# EAGLE library part MOTORDRIVER (library pinheads)
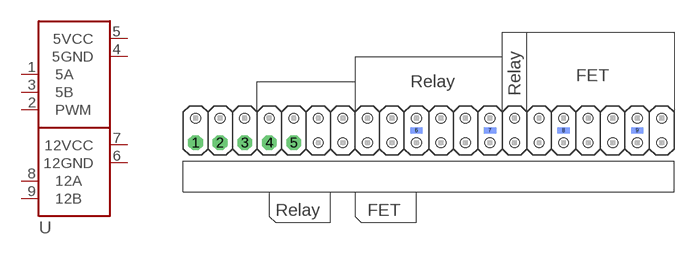
[diagram p42: symbol with the pads of MOTORDRIVER; footprint MOTORDRIVER]

Designator prefix -

## MOTORDRIVER  [MOTORDRIVER]
1  5A
2  PWM
3  5B
4  5GND  pwr
5  5VCC  pwr
6  12GND  pwr
7  12VCC  pwr
8  12A
9  12B

## Footprint MOTORDRIVER (pad centres in mm)
drill 1.016 pad 1.524 octagon: 1 -22.86,-1.27; 2 -20.32,-1.27; 3 -17.78,-1.27; 4 -15.24,-1.27; 5 -12.7,-1.27
smd 1.27 x 0.635 bottom: 6 0,0; 7 7.62,0; 8 15.24,0; 9 22.86,0
hole 1.016 at 15.24,1.27
hole 1.016 at 17.78,1.27
hole 1.016 at 20.32,1.27
hole 1.016 at 22.86,1.27
hole 1.016 at 25.4,1.27
hole 1.016 at 20.32,-1.27
hole 1.016 at 25.4,-1.27
hole 1.016 at 17.78,-1.27
hole 1.016 at 12.7,-1.27
hole 1.016 at 12.7,1.27
hole 1.016 at 10.16,1.27
hole 1.016 at 7.62,1.27
hole 1.016 at 10.16,-1.27
hole 1.016 at 5.08,-1.27
hole 1.016 at 5.08,1.27
hole 1.016 at 2.54,1.27
hole 1.016 at 0,1.27
hole 1.016 at 2.54,-1.27
hole 1.016 at -2.54,-1.27
hole 1.016 at -2.54,1.27
hole 1.016 at -22.86,1.27
hole 1.016 at -20.32,1.27
hole 1.016 at -17.78,1.27
hole 1.016 at -15.24,1.27
hole 1.016 at -12.7,1.27
hole 1.016 at -10.16,1.27
hole 1.016 at -10.16,-1.27
hole 1.016 at -7.62,-1.27
hole 1.016 at -7.62,1.27
hole 1.016 at -5.08,1.27
hole 1.016 at -5.08,-1.27
hole 1.016 at 0,-1.27
hole 1.016 at 7.62,-1.27
hole 1.016 at 15.24,-1.27
hole 1.016 at 22.86,-1.27